# EAGLE library part TPS22917DBVR (library ICs)
TPS22917 1 V–5.5-V, 2-A, 80-mΩ Ultra-Low Leakage Load Switch
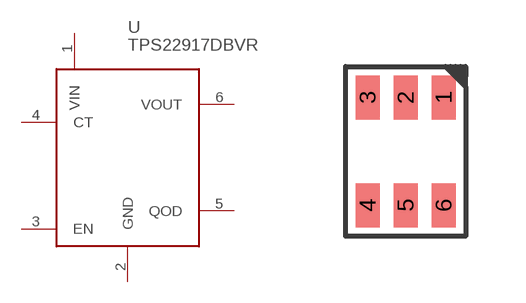
[diagram p220: symbol with the pads of SOT23-6; footprint SOT23-6]

Designator prefix U

## TPS22917DBVR (DIGIKEY: 296-50498-1-ND; HEIGHT: 1.5; PRICE_PER: 0.43; VALUE: TPS22917)  [SOT23-6]
1  VIN
2  GND
3  EN
4  CT
5  QOD
6  VOUT

## Footprint SOT23-6 (pad centres in mm)
smd 0.6 x 1.1: 1 0.95,1.35; 2 0,1.35; 3 -0.95,1.35; 4 -0.95,-1.35; 5 0,-1.35; 6 0.95,-1.35